# EAGLE library part SW_SLIDESW_2_ (library mylib_20130829)
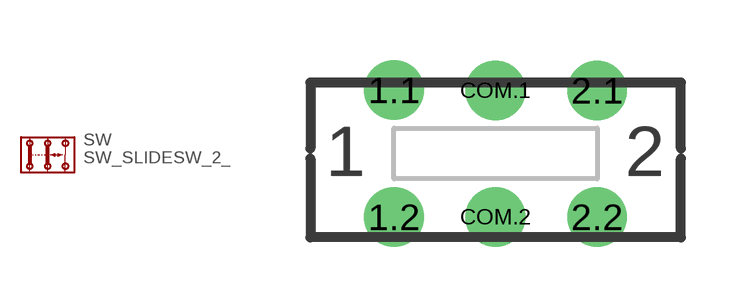
[diagram p93: symbol with the pads of SW_SLIDE_2X2_1; footprint SW_SLIDE_2X2_1]

Designator prefix SW

## SW_SLIDESW_2_  [SW_SLIDE_2X2_1]
1.1  1.1  pas
1.2  1.2  pas
2.1  2.1  pas
2.2  2.2  pas
COM.1  COM.1  pas
COM.2  COM.2  pas

## Footprint SW_SLIDE_2X2_1 (pad centres in mm)
drill 0.991: 1.1 -2.54,1.587; 1.2 -2.54,-1.587; 2.1 2.54,1.575; 2.2 2.54,-1.587; COM.1 0,1.575; COM.2 0,-1.587